# Altium footprint library WR-MPC4.PcbLib: 79 footprints (part 3 of 5)
Each footprint in its own frame and in the unit in brackets; x right, y up, seen from the top. Pads: shape width x height; smd on the part's side, far side on the other; paste and mask are expansions set on the pad; w line width, h text height; cw(c..) or ccw(c..) is an arc to the next point about the centre after c.
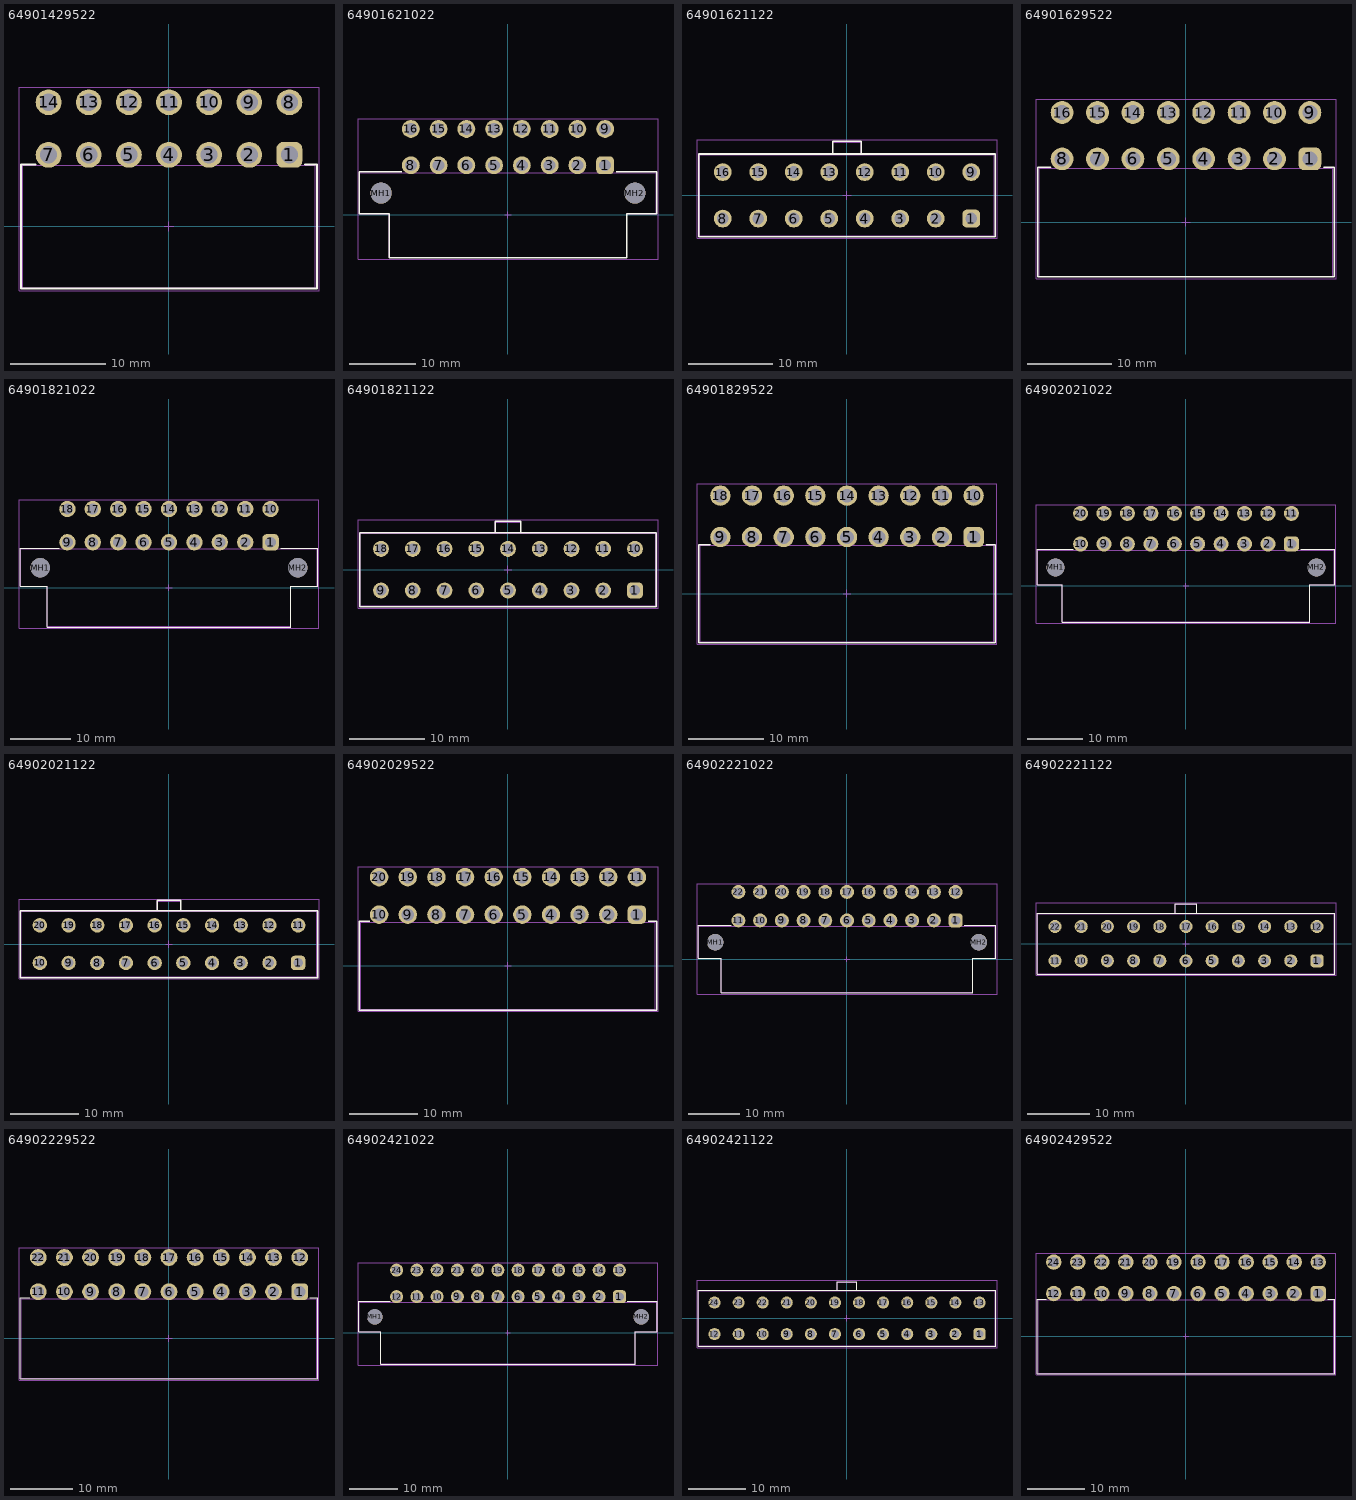
[diagram p2: the footprints below, top view; thin cyan lines are the x and y axes]

## 64901429522 [mm] "4.20mm Male Dual Row Angled Header, 14p"
height 10
pads (14):
  rrect50% 2.7x2.7 hole 1.8: 1(12.6,7.5)
  round 2.7 hole 1.8: 2(8.4,7.5) 3(4.2,7.5) 4(0,7.5) 5(-4.2,7.5) 6(-8.4,7.5) 7(-12.6,7.5) 8(12.6,13) 9(8.4,13) 10(4.2,13) 11(0,13) 12(-4.2,13) 13(-8.4,13) 14(-12.6,13)
Top Overlay:
  lines w0.2: -13.95,6.5 -15.5,6.5 -15.5,-6.5 15.5,-6.5 15.5,6.5 14.25,6.5
Top Designator:
  text ".Designator" at -7.498,-0.5 h1.5
Top Component Outline:
  lines w0.1: -15.3,-6.4 -15.3,6.4 15.3,6.4 15.3,-6.4 -15.3,-6.4
Top Courtyard:
  lines w0.05: -0.5,0 0.5,0 ; 0,-0.5 0,0.5 ; -15.7,-6.7 15.7,-6.7 15.7,14.55 -15.7,14.55 -15.7,-6.7
3D body "64901429522.stp": height 11.43, standoff -3.47, extent -15.3,-6.4 15.62,13.57

## 64901621022 [mm] "4.20mm Male Dual Row Angled Header with Mounting Flanges for Screw-in Retention, 16p"
height 10
pads (18):
  rrect50% 2.7x2.7 hole 1.8: 1(14.7,7.5)
  round 2.7 hole 1.8: 2(10.5,7.5) 3(6.3,7.5) 4(2.1,7.5) 5(-2.1,7.5) 6(-6.3,7.5) 7(-10.5,7.5) 8(-14.7,7.5) 9(14.7,13) 10(10.5,13) 11(6.3,13) 12(2.1,13) 13(-2.1,13) 14(-6.3,13) 15(-10.5,13) 16(-14.7,13)
  round 3.2 hole 3.2 unplated: MH1(-19.2,3.3) MH2(19.2,3.3)
Top Overlay:
  lines w0.2: -16.05,6.525 -22.5,6.525 -22.5,0.2 -18,0.2 -18,-6.525 18,-6.525 18,0.2 22.5,0.2 22.5,6.525 16.35,6.525
Top Designator:
  text ".Designator" at -7.498,-0.5 h1.5
Top Component Outline:
  lines w0.1: -22.4,0.2 -18,0.2 -18,-6.4 18,-6.4 18,0.2 22.4,0.2 22.4,6.4 -22.4,6.4 -22.4,0.2
Top Courtyard:
  lines w0.05: -0.5,0 0.5,0 ; 0,-0.5 0,0.5 ; -22.7,-6.725 22.7,-6.725 22.7,14.55 -22.7,14.55 -22.7,-6.725
3D body "64901621022.stp": height 11.43, standoff -3.47, extent -22.4,-6.4 22.4,13.57

## 64901621122 [mm] "4.20mm Male Dual Row Vertical Header, 16p"
height 12.8
pads (16):
  rrect50% 2.1x2.1 hole 1.4: 1(14.7,-2.75)
  round 2.1 hole 1.4: 2(10.5,-2.75) 3(6.3,-2.75) 4(2.1,-2.75) 5(-2.1,-2.75) 6(-6.3,-2.75) 7(-10.5,-2.75) 8(-14.7,-2.75) 9(14.7,2.75) 10(10.5,2.75) 11(6.3,2.75) 12(2.1,2.75) 13(-2.1,2.75) 14(-6.3,2.75) 15(-10.5,2.75) 16(-14.7,2.75)
Top Overlay:
  lines w0.2: -1.7,4.9 -1.7,6.4 1.7,6.4 1.7,4.9 ; -17.55,-4.9 -17.55,4.9 17.55,4.9 17.55,-4.9 -17.55,-4.9
Top Designator:
  text ".Designator" at -7.498,-0.5 h1.5
Top Component Outline:
  lines w0.1: -1.7,4.8 -1.7,6.3 1.7,6.3 1.7,4.8 ; -17.45,-4.8 17.45,-4.8 17.45,4.8 -17.45,4.8 -17.45,-4.8
Top Courtyard:
  lines w0.05: -0.5,0 0.5,0 ; 0,-0.5 0,0.5 ; -17.75,-5.1 17.75,-5.1 17.75,6.6 -17.75,6.6 -17.75,-5.1
3D body "64901621122.stp": height 12.85, standoff -3.45, extent -17.45,-4.8 17.746,6.3

## 64901629522 [mm] "4.20mm Male Dual Row Angled Header, 16p"
height 10
pads (16):
  rrect50% 2.7x2.7 hole 1.8: 1(14.7,7.5)
  round 2.7 hole 1.8: 2(10.5,7.5) 3(6.3,7.5) 4(2.1,7.5) 5(-2.1,7.5) 6(-6.3,7.5) 7(-10.5,7.5) 8(-14.7,7.5) 9(14.7,13) 10(10.5,13) 11(6.3,13) 12(2.1,13) 13(-2.1,13) 14(-6.3,13) 15(-10.5,13) 16(-14.7,13)
Top Overlay:
  lines w0.2: -16.05,6.5 -17.6,6.5 -17.6,-6.5 17.6,-6.5 17.6,6.5 16.35,6.5
Top Designator:
  text ".Designator" at -7.498,-0.5 h1.5
Top Component Outline:
  lines w0.1: -17.4,-6.4 -17.4,6.4 17.4,6.4 17.4,-6.4 -17.4,-6.4
Top Courtyard:
  lines w0.05: -0.5,0 0.5,0 ; 0,-0.5 0,0.5 ; -17.8,-6.7 17.8,-6.7 17.8,14.55 -17.8,14.55 -17.8,-6.7
3D body "64901629522.stp": height 11.43, standoff -3.47, extent -17.4,-6.4 17.72,13.57

## 64901821022 [mm] "4.20mm Male Dual Row Angled Header with Mounting Flanges for Screw-in Retention, 18p"
height 10
pads (20):
  rrect50% 2.7x2.7 hole 1.8: 1(16.8,7.5)
  round 2.7 hole 1.8: 2(12.6,7.5) 3(8.4,7.5) 4(4.2,7.5) 5(0,7.5) 6(-4.2,7.5) 7(-8.4,7.5) 8(-12.6,7.5) 9(-16.8,7.5) 10(16.8,13) 11(12.6,13) 12(8.4,13) 13(4.2,13) 14(0,13) 15(-4.2,13) 16(-8.4,13) 17(-12.6,13) 18(-16.8,13)
  round 3.2 hole 3.2 unplated: MH1(-21.3,3.3) MH2(21.3,3.3)
Top Overlay:
  lines w0.2: -18.15,6.525 -24.6,6.525 -24.6,0.2 -20.1,0.2 -20.1,-6.525 20.1,-6.525 20.1,0.2 24.6,0.2 24.6,6.525 18.45,6.525
Top Designator:
  text ".Designator" at -7.498,-0.5 h1.5
Top Component Outline:
  lines w0.1: -24.5,0.2 -20.1,0.2 -20.1,-6.4 20.1,-6.4 20.1,0.2 24.5,0.2 24.5,6.4 -24.5,6.4 -24.5,0.2
Top Courtyard:
  lines w0.05: -0.5,0 0.5,0 ; 0,-0.5 0,0.5 ; -24.8,-6.725 24.8,-6.725 24.8,14.55 -24.8,14.55 -24.8,-6.725
3D body "64901821022.stp": height 11.43, standoff -3.47, extent -24.5,-6.4 24.5,13.57

## 64901821122 [mm] "4.20mm Male Dual Row Vertical Header, 18p"
height 12.8
pads (18):
  rrect50% 2.1x2.1 hole 1.4: 1(16.8,-2.75)
  round 2.1 hole 1.4: 2(12.6,-2.75) 3(8.4,-2.75) 4(4.2,-2.75) 5(0,-2.75) 6(-4.2,-2.75) 7(-8.4,-2.75) 8(-12.6,-2.75) 9(-16.8,-2.75) 10(16.8,2.75) 11(12.6,2.75) 12(8.4,2.75) 13(4.2,2.75) 14(0,2.75) 15(-4.2,2.75) 16(-8.4,2.75) 17(-12.6,2.75) 18(-16.8,2.75)
Top Overlay:
  lines w0.2: -1.7,4.9 -1.7,6.4 1.7,6.4 1.7,4.9 ; -19.65,-4.9 -19.65,4.9 19.65,4.9 19.65,-4.9 -19.65,-4.9
Top Designator:
  text ".Designator" at -7.498,-0.5 h1.5
Top Component Outline:
  lines w0.1: -1.7,4.8 -1.7,6.3 1.7,6.3 1.7,4.8 ; -19.55,-4.8 19.55,-4.8 19.55,4.8 -19.55,4.8 -19.55,-4.8
Top Courtyard:
  lines w0.05: -0.5,0 0.5,0 ; 0,-0.5 0,0.5 ; -19.85,-5.1 19.85,-5.1 19.85,6.6 -19.85,6.6 -19.85,-5.1
3D body "64901821122.stp": height 12.85, standoff -3.45, extent -19.55,-4.8 19.846,6.3

## 64901829522 [mm] "4.20mm Male Dual Row Angled Header, 18p"
height 10
pads (18):
  rrect50% 2.7x2.7 hole 1.8: 1(16.8,7.5)
  round 2.7 hole 1.8: 2(12.6,7.5) 3(8.4,7.5) 4(4.2,7.5) 5(0,7.5) 6(-4.2,7.5) 7(-8.4,7.5) 8(-12.6,7.5) 9(-16.8,7.5) 10(16.8,13) 11(12.6,13) 12(8.4,13) 13(4.2,13) 14(0,13) 15(-4.2,13) 16(-8.4,13) 17(-12.6,13) 18(-16.8,13)
Top Overlay:
  lines w0.2: -18.15,6.5 -19.7,6.5 -19.7,-6.5 19.7,-6.5 19.7,6.5 18.45,6.5
Top Designator:
  text ".Designator" at -7.498,-0.5 h1.5
Top Component Outline:
  lines w0.1: -19.5,-6.4 -19.5,6.4 19.5,6.4 19.5,-6.4 -19.5,-6.4
Top Courtyard:
  lines w0.05: -0.5,0 0.5,0 ; 0,-0.5 0,0.5 ; -19.9,-6.7 19.9,-6.7 19.9,14.55 -19.9,14.55 -19.9,-6.7
3D body "64901829522.stp": height 11.43, standoff -3.47, extent -19.5,-6.4 19.82,13.57

## 64902021022 [mm] "4.20mm Male Dual Row Angled Header with Mounting Flanges for Screw-in Retention, 20p"
height 10
pads (22):
  rrect50% 2.7x2.7 hole 1.8: 1(18.9,7.5)
  round 2.7 hole 1.8: 2(14.7,7.5) 3(10.5,7.5) 4(6.3,7.5) 5(2.1,7.5) 6(-2.1,7.5) 7(-6.3,7.5) 8(-10.5,7.5) 9(-14.7,7.5) 10(-18.9,7.5) 11(18.9,13) 12(14.7,13) 13(10.5,13) 14(6.3,13) 15(2.1,13) 16(-2.1,13) 17(-6.3,13) 18(-10.5,13) 19(-14.7,13) 20(-18.9,13)
  round 3.2 hole 3.2 unplated: MH1(-23.4,3.3) MH2(23.4,3.3)
Top Overlay:
  lines w0.2: -20.25,6.525 -26.7,6.525 -26.7,0.2 -22.2,0.2 -22.2,-6.525 22.2,-6.525 22.2,0.2 26.7,0.2 26.7,6.525 20.55,6.525
Top Designator:
  text ".Designator" at -7.498,-0.5 h1.5
Top Component Outline:
  lines w0.1: -26.6,0.2 -22.2,0.2 -22.2,-6.4 22.2,-6.4 22.2,0.2 26.6,0.2 26.6,6.4 -26.6,6.4 -26.6,0.2
Top Courtyard:
  lines w0.05: -0.5,0 0.5,0 ; 0,-0.5 0,0.5 ; -26.9,-6.725 26.9,-6.725 26.9,14.55 -26.9,14.55 -26.9,-6.725
3D body "64902021022.stp": height 11.43, standoff -3.47, extent -26.6,-6.4 26.6,13.57

## 64902021122 [mm] "4.20mm Male Dual Row Vertical Header, 20p"
height 12.8
pads (20):
  rrect50% 2.1x2.1 hole 1.4: 1(18.9,-2.75)
  round 2.1 hole 1.4: 2(14.7,-2.75) 3(10.5,-2.75) 4(6.3,-2.75) 5(2.1,-2.75) 6(-2.1,-2.75) 7(-6.3,-2.75) 8(-10.5,-2.75) 9(-14.7,-2.75) 10(-18.9,-2.75) 11(18.9,2.75) 12(14.7,2.75) 13(10.5,2.75) 14(6.3,2.75) 15(2.1,2.75) 16(-2.1,2.75) 17(-6.3,2.75) 18(-10.5,2.75) 19(-14.7,2.75) 20(-18.9,2.75)
Top Overlay:
  lines w0.2: -1.7,4.9 -1.7,6.4 1.7,6.4 1.7,4.9 ; -21.75,-4.9 -21.75,4.9 21.75,4.9 21.75,-4.9 -21.75,-4.9
Top Designator:
  text ".Designator" at -7.498,-0.5 h1.5
Top Component Outline:
  lines w0.1: -1.7,4.8 -1.7,6.3 1.7,6.3 1.7,4.8 ; -21.65,-4.8 21.65,-4.8 21.65,4.8 -21.65,4.8 -21.65,-4.8
Top Courtyard:
  lines w0.05: -0.5,0 0.5,0 ; 0,-0.5 0,0.5 ; -21.95,-5.1 21.95,-5.1 21.95,6.6 -21.95,6.6 -21.95,-5.1
3D body "64902021122.stp": height 12.85, standoff -3.45, extent -21.65,-4.8 21.946,6.3

## 64902029522 [mm] "4.20mm Male Dual Row Angled Header, 20p"
height 10
pads (20):
  rrect50% 2.7x2.7 hole 1.8: 1(18.9,7.5)
  round 2.7 hole 1.8: 2(14.7,7.5) 3(10.5,7.5) 4(6.3,7.5) 5(2.1,7.5) 6(-2.1,7.5) 7(-6.3,7.5) 8(-10.5,7.5) 9(-14.7,7.5) 10(-18.9,7.5) 11(18.9,13) 12(14.7,13) 13(10.5,13) 14(6.3,13) 15(2.1,13) 16(-2.1,13) 17(-6.3,13) 18(-10.5,13) 19(-14.7,13) 20(-18.9,13)
Top Overlay:
  lines w0.2: -20.25,6.5 -21.8,6.5 -21.8,-6.5 21.8,-6.5 21.8,6.5 20.55,6.5
Top Designator:
  text ".Designator" at -7.498,-0.5 h1.5
Top Component Outline:
  lines w0.1: -21.6,-6.4 -21.6,6.4 21.6,6.4 21.6,-6.4 -21.6,-6.4
Top Courtyard:
  lines w0.05: -0.5,0 0.5,0 ; 0,-0.5 0,0.5 ; -22,-6.7 22,-6.7 22,14.55 -22,14.55 -22,-6.7
3D body "64902029522.stp": height 11.43, standoff -3.47, extent -21.6,-6.4 21.92,13.57

## 64902221022 [mm] "4.20mm Male Dual Row Angled Header with Mounting Flanges for Screw-in Retention, 22p"
height 10
pads (24):
  rrect50% 2.7x2.7 hole 1.8: 1(21,7.5)
  round 2.7 hole 1.8: 2(16.8,7.5) 3(12.6,7.5) 4(8.4,7.5) 5(4.2,7.5) 6(0,7.5) 7(-4.2,7.5) 8(-8.4,7.5) 9(-12.6,7.5) 10(-16.8,7.5) 11(-21,7.5) 12(21,13) 13(16.8,13) 14(12.6,13) 15(8.4,13) 16(4.2,13) 17(0,13) 18(-4.2,13) 19(-8.4,13) 20(-12.6,13) 21(-16.8,13) 22(-21,13)
  round 3.2 hole 3.2 unplated: MH1(-25.5,3.3) MH2(25.5,3.3)
Top Overlay:
  lines w0.2: -22.35,6.525 -28.8,6.525 -28.8,0.2 -24.3,0.2 -24.3,-6.525 24.3,-6.525 24.3,0.2 28.8,0.2 28.8,6.525 22.65,6.525
Top Designator:
  text ".Designator" at -7.498,-0.5 h1.5
Top Component Outline:
  lines w0.1: -28.7,0.2 -24.3,0.2 -24.3,-6.4 24.3,-6.4 24.3,0.2 28.7,0.2 28.7,6.4 -28.7,6.4 -28.7,0.2
Top Courtyard:
  lines w0.05: -0.5,0 0.5,0 ; 0,-0.5 0,0.5 ; -29,-6.725 29,-6.725 29,14.55 -29,14.55 -29,-6.725
3D body "64902221022.stp": height 11.43, standoff -3.47, extent -28.7,-6.4 28.7,13.57

## 64902221122 [mm] "4.20mm Male Dual Row Vertical Header, 22p"
height 12.8
pads (22):
  rrect50% 2.1x2.1 hole 1.4: 1(21,-2.75)
  round 2.1 hole 1.4: 2(16.8,-2.75) 3(12.6,-2.75) 4(8.4,-2.75) 5(4.2,-2.75) 6(0,-2.75) 7(-4.2,-2.75) 8(-8.4,-2.75) 9(-12.6,-2.75) 10(-16.8,-2.75) 11(-21,-2.75) 12(21,2.75) 13(16.8,2.75) 14(12.6,2.75) 15(8.4,2.75) 16(4.2,2.75) 17(0,2.75) 18(-4.2,2.75) 19(-8.4,2.75) 20(-12.6,2.75) 21(-16.8,2.75) 22(-21,2.75)
Top Overlay:
  lines w0.2: -1.7,4.9 -1.7,6.4 1.7,6.4 1.7,4.9 ; -23.85,-4.9 23.85,-4.9 23.85,4.9 -23.85,4.9 -23.85,-4.9
Top Designator:
  text ".Designator" at -7.498,-0.5 h1.5
Top Component Outline:
  lines w0.1: -1.7,4.8 -1.7,6.3 1.7,6.3 1.7,4.8 ; -23.75,-4.8 -23.75,4.8 23.75,4.8 23.75,-4.8 -23.75,-4.8
Top Courtyard:
  lines w0.05: -0.5,0 0.5,0 ; 0,-0.5 0,0.5 ; -24.05,-5.1 -24.05,6.6 24.05,6.6 24.05,-5.1 -24.05,-5.1
3D body "64902221122.stp": height 12.85, standoff -3.45, extent -23.75,-4.8 24.046,6.3

## 64902229522 [mm] "4.20mm Male Dual Row Angled Header, 22p"
height 10
pads (22):
  rrect50% 2.7x2.7 hole 1.8: 1(21,7.5)
  round 2.7 hole 1.8: 2(16.8,7.5) 3(12.6,7.5) 4(8.4,7.5) 5(4.2,7.5) 6(0,7.5) 7(-4.2,7.5) 8(-8.4,7.5) 9(-12.6,7.5) 10(-16.8,7.5) 11(-21,7.5) 12(21,13) 13(16.8,13) 14(12.6,13) 15(8.4,13) 16(4.2,13) 17(0,13) 18(-4.2,13) 19(-8.4,13) 20(-12.6,13) 21(-16.8,13) 22(-21,13)
Top Overlay:
  lines w0.2: -22.35,6.5 -23.9,6.5 -23.9,-6.5 23.9,-6.5 23.9,6.5 22.65,6.5
Top Designator:
  text ".Designator" at -7.498,-0.5 h1.5
Top Component Outline:
  lines w0.1: -23.7,-6.4 23.7,-6.4 23.7,6.4 -23.7,6.4 -23.7,-6.4
Top Courtyard:
  lines w0.05: -0.5,0 0.5,0 ; 0,-0.5 0,0.5 ; -24.1,-6.7 -24.1,14.55 24.1,14.55 24.1,-6.7 -24.1,-6.7
3D body "64902229522.stp": height 11.43, standoff -3.47, extent -23.7,-6.4 24.02,13.57

## 64902421022 [mm] "4.20mm Male Dual Row Angled Header with Mounting Flanges for Screw-in Retention, 24p"
height 10
pads (26):
  rrect50% 2.7x2.7 hole 1.8: 1(23.1,7.5)
  round 2.7 hole 1.8: 2(18.9,7.5) 3(14.7,7.5) 4(10.5,7.5) 5(6.3,7.5) 6(2.1,7.5) 7(-2.1,7.5) 8(-6.3,7.5) 9(-10.5,7.5) 10(-14.7,7.5) 11(-18.9,7.5) 12(-23.1,7.5) 13(23.1,13) 14(18.9,13) 15(14.7,13) 16(10.5,13) 17(6.3,13) 18(2.1,13) 19(-2.1,13) 20(-6.3,13) 21(-10.5,13) 22(-14.7,13) 23(-18.9,13) 24(-23.1,13)
  round 3.2 hole 3.2 unplated: MH1(-27.6,3.3) MH2(27.6,3.3)
Top Overlay:
  lines w0.2: -24.45,6.525 -30.9,6.525 -30.9,0.2 -26.4,0.2 -26.4,-6.525 26.4,-6.525 26.4,0.2 30.9,0.2 30.9,6.525 24.75,6.525
Top Designator:
  text ".Designator" at -7.498,-0.5 h1.5
Top Component Outline:
  lines w0.1: -30.8,0.2 -30.8,6.4 30.8,6.4 30.8,0.2 26.4,0.2 26.4,-6.4 -26.4,-6.4 -26.4,0.2 -30.8,0.2
Top Courtyard:
  lines w0.05: -0.5,0 0.5,0 ; 0,-0.5 0,0.5 ; -31.1,-6.725 -31.1,14.55 31.1,14.55 31.1,-6.725 -31.1,-6.725
3D body "64902421022.stp": height 11.43, standoff -3.47, extent -30.8,-6.4 30.8,13.57

## 64902421122 [mm] "4.20mm Male Dual Row Vertical Header, 24p"
height 12.8
pads (24):
  rrect50% 2.1x2.1 hole 1.4: 1(23.1,-2.75)
  round 2.1 hole 1.4: 2(18.9,-2.75) 3(14.7,-2.75) 4(10.5,-2.75) 5(6.3,-2.75) 6(2.1,-2.75) 7(-2.1,-2.75) 8(-6.3,-2.75) 9(-10.5,-2.75) 10(-14.7,-2.75) 11(-18.9,-2.75) 12(-23.1,-2.75) 13(23.1,2.75) 14(18.9,2.75) 15(14.7,2.75) 16(10.5,2.75) 17(6.3,2.75) 18(2.1,2.75) 19(-2.1,2.75) 20(-6.3,2.75) 21(-10.5,2.75) 22(-14.7,2.75) 23(-18.9,2.75) 24(-23.1,2.75)
Top Overlay:
  lines w0.2: -1.7,4.9 -1.7,6.4 1.7,6.4 1.7,4.9 ; -25.95,-4.9 25.95,-4.9 25.95,4.9 -25.95,4.9 -25.95,-4.9
Top Designator:
  text ".Designator" at -7.498,-0.5 h1.5
Top Component Outline:
  lines w0.1: -1.7,4.8 -1.7,6.3 1.7,6.3 1.7,4.8 ; -25.85,-4.8 -25.85,4.8 25.85,4.8 25.85,-4.8 -25.85,-4.8
Top Courtyard:
  lines w0.05: -0.5,0 0.5,0 ; 0,-0.5 0,0.5 ; -26.15,-5.1 -26.15,6.6 26.15,6.6 26.15,-5.1 -26.15,-5.1
3D body "64902421122.stp": height 12.85, standoff -3.45, extent -25.85,-4.8 26.146,6.3

## 64902429522 [mm] "4.20mm Male Dual Row Angled Header, 24p"
height 10
pads (24):
  rrect50% 2.7x2.7 hole 1.8: 1(23.1,7.5)
  round 2.7 hole 1.8: 2(18.9,7.5) 3(14.7,7.5) 4(10.5,7.5) 5(6.3,7.5) 6(2.1,7.5) 7(-2.1,7.5) 8(-6.3,7.5) 9(-10.5,7.5) 10(-14.7,7.5) 11(-18.9,7.5) 12(-23.1,7.5) 13(23.1,13) 14(18.9,13) 15(14.7,13) 16(10.5,13) 17(6.3,13) 18(2.1,13) 19(-2.1,13) 20(-6.3,13) 21(-10.5,13) 22(-14.7,13) 23(-18.9,13) 24(-23.1,13)
Top Overlay:
  lines w0.2: -24.45,6.5 -26,6.5 -26,-6.5 26,-6.5 26,6.5 24.75,6.5
Top Designator:
  text ".Designator" at -7.498,-0.5 h1.5
Top Component Outline:
  lines w0.1: -25.8,-6.4 -25.8,6.4 25.8,6.4 25.8,-6.4 -25.8,-6.4
Top Courtyard:
  lines w0.05: -0.5,0 0.5,0 ; 0,-0.5 0,0.5 ; -26.2,-6.7 26.2,-6.7 26.2,14.55 -26.2,14.55 -26.2,-6.7
3D body "64902429522.stp": height 11.43, standoff -3.47, extent -25.8,-6.4 26.12,13.57